# Altium schematic symbol library Detectors.SchLib: 109 symbols (part 4 of 5)
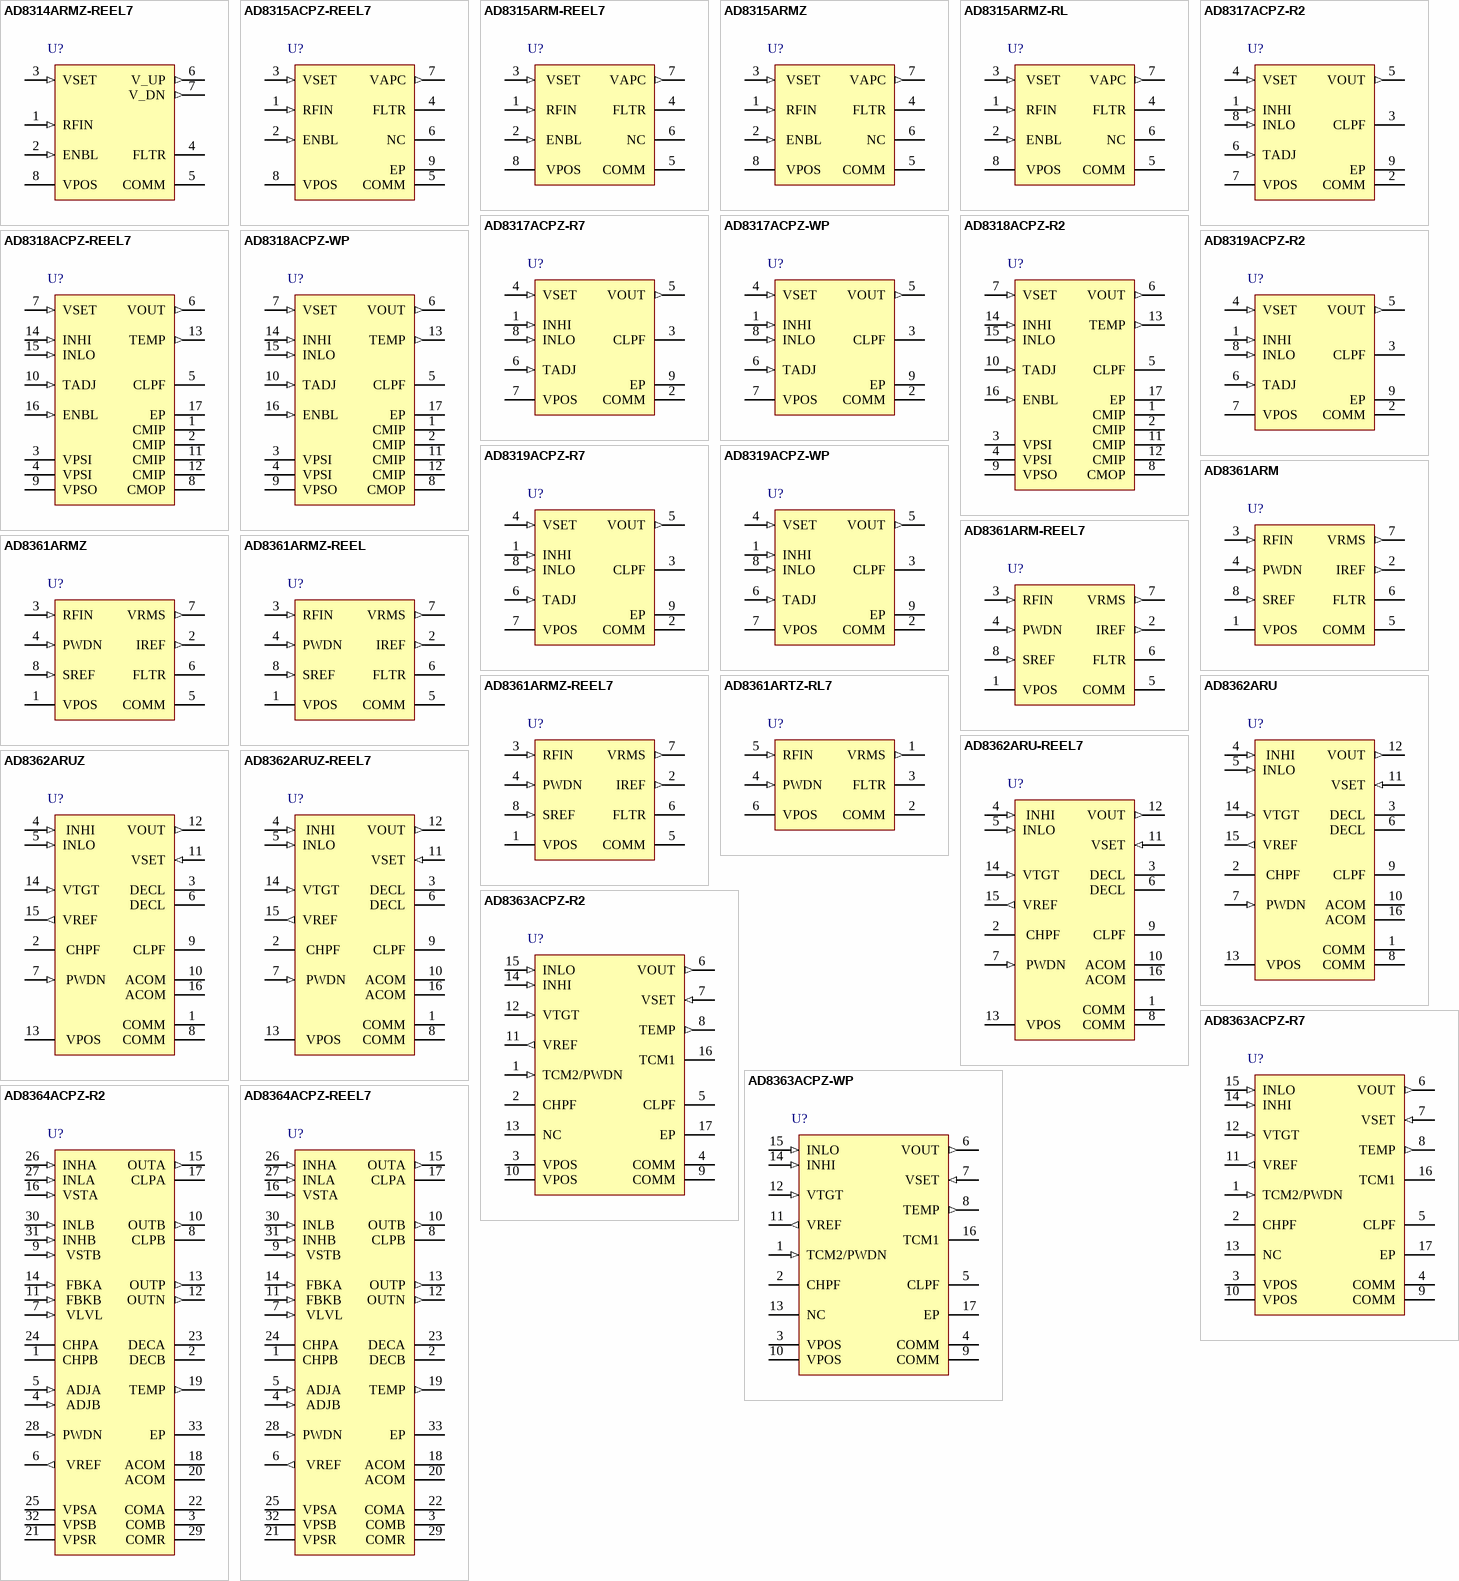
[diagram p6: symbols AD8314ARMZ-REEL7 to AD8364ACPZ-REEL7]

## AD8361ARMZ-REEL7
designator U?
LF to 2.5 GHz TruPwr™ Detector, 5µs Response Time, RM-8, Pb-Free, 1000 	Reel; Product Description: Low Power RMS Detector; RF Frequency (MHz): 2.5GHz; Dynamic Range (dB): 30dB; Temp Stability (dB): 250mdB; Voltage Supply (V): 2.7 to 5.5; Supply Current: 1.1mA; Output Response: Linear in Voltage; DatasheetVersion: Rev. C; PackageVersion: Aug-2005; PackageReference: RM-8; PackageDescription: 8-Lead Mini Small Outline Package [MSOP]; Response Time (ns typ): 5µs; Code_JEDEC: MO-187-AA; ComponentLink1Description: Manufacturer URL; ComponentLink1URL: www.analog.com; ComponentLink2Description: Datasheet; ComponentLink2URL: http://www.analog.com/static/imported-files/data_sheets/AD8361.pdf; ComponentLink3Description: Package Specification; ComponentLink3URL: http://www.analog.com/static/imported-files/packages/PKG_PDF/MSOP%28RM%29/RM_8.pdf
footprint ADI-RM-8_N (TSOP, 8-Leads, Body 3x3mm, Pitch 0.65mm, IPC Medium Density)
footprint ADI-RM-8_L (TSOP, 8-Leads, Body 3x3mm, Pitch 0.65mm, IPC High Density)
footprint ADI-RM-8_M (TSOP, 8-Leads, Body 3x3mm, Pitch 0.65mm, IPC Low Density)
pins: 1 VPOS (power) "Supply Voltage Pin. Operational range 2.7 V to 5.5 V", 2 IREF (out) "Output Reference Control Pin. Internal reference mode enabled when pin is left open; otherwise, this pin should be tied to VPOS. Do not ground this pin", 3 RFIN (in) "Signal Input Pin. Must be driven from an ac-coupled source. The low frequency real input impedance is 225 Ohm", 4 PWDN (in) "Power-Down Pin. For the device to operate as a detector, it needs a logical low input (less than 100 mV). [see datasheet.]", 5 COMM (power) "Device Ground Pin", 6 FLTR "By placing a capacitor between this pin and VPOS, the corner frequency of the modulation filter is lowered. The on-chip filter is formed with 27 pF||2 kOhm for small input signals", 7 VRMS (out) "Output Pin. Near rail-to-rail voltage output with limited current drive capabilities. Expected load >10 kOhm to ground", 8 SREF (in) "Supply Reference Control Pin. To enable supply reference mode, this pin must be connected to VPOS; otherwise, it should be connected to COMM (ground)"

## AD8361ARTZ-RL7
designator U?
LF to 2.5 GHz TruPwr™ Detector, 5µs Response Time, RJ-6, Pb-Free, 3000 	Reel; Product Description: Low Power RMS Detector; RF Frequency (MHz): 2.5GHz; Dynamic Range (dB): 30dB; Temp Stability (dB): 250mdB; Voltage Supply (V): 2.7 to 5.5; Supply Current: 1.1mA; Output Response: Linear in Voltage; DatasheetVersion: Rev. C; PackageVersion: 121608-A; PackageReference: RJ-6; PackageDescription: 6-Lead Small Outline Transistor Package [SOT-23]; Response Time (ns typ): 5µs; Code_JEDEC: MO-178-AB; ComponentLink1Description: Manufacturer URL; ComponentLink1URL: www.analog.com; ComponentLink2Description: Datasheet; ComponentLink2URL: http://www.analog.com/static/imported-files/data_sheets/AD8361.pdf; ComponentLink3Description: Package Specification; ComponentLink3URL: http://www.analog.com/static/imported-files/packages/PKG_PDF/SOT-23(RJ)/RJ_6.pdf
footprint ADI-RJ-6_N (SOT23, 6-Leads, Body 2.9x1.6mm, Pitch 0.95mm, Lead Span 2.8mm, IPC Medium Density)
footprint ADI-RJ-6_L (SOT23, 6-Leads, Body 2.9x1.6mm, Pitch 0.95mm, Lead Span 2.8mm, IPC High Density)
footprint ADI-RJ-6_M (SOT23, 6-Leads, Body 2.9x1.6mm, Pitch 0.95mm, Lead Span 2.8mm, IPC Low Density)
pins: 1 VRMS (out) "Output Pin. Near rail-to-rail voltage output with limited current drive capabilities. Expected load >10 k ohm to ground", 2 COMM (power) "Device Ground Pin", 3 FLTR "By placing a capacitor between this pin and VPOS, the corner frequency of the modulation filter is lowered. The on-chip filter is formed with 27 pF||2 kohm for small input signals", 4 PWDN (in) "Power-Down Pin. For the device to operate as a detector, it needs a logical low input (less than 100 mV).[see datasheet]", 5 RFIN (in) "Signal Input Pin. Must be driven from an ac-coupled source. The low frequency real input impedance is 225 ohm", 6 VPOS (power) "Supply Voltage Pin. Operational range 2.7 V to 5.5 V"

## AD8362ARU
designator U?
50 Hz to 3.8 GHz 65 dB TruPwr™ Detector, 45ns Response Time, RU-16, 96 Tube; Product Description: Wide Dynamic Range; RF Frequency (MHz): 3.8GHz; Dynamic Range (dB): 60dB; Temp Stability (dB): 1dB; Voltage Supply (V): 4.5 to 5.5; Supply Current: 20mA; Output Response: Linear in dB; DatasheetVersion: Rev. D; PackageVersion: Nov-2002; PackageReference: RU-16; PackageDescription: 16-Lead Thin Shrink Small Outline Package [TSSOP]; Response Time (ns typ): 45ns; Code_JEDEC: MO-153AB; ComponentLink1Description: Manufacturer URL; ComponentLink1URL: www.analog.com; ComponentLink2Description: Datasheet; ComponentLink2URL: http://www.analog.com/static/imported-files/data_sheets/AD8362.pdf; ComponentLink3Description: Package Specification; ComponentLink3URL: http://www.analog.com/static/imported-files/packages/36244347913743854010197452789RU16.pdf
footprint ADI-RU-16_N (TSOP, 16-Leads, Body 5x4.4mm, Pitch 0.65mm, IPC Medium Density)
footprint ADI-RU-16_L (TSOP, 16-Leads, Body 5x4.4mm, Pitch 0.65mm, IPC High Density)
footprint ADI-RU-16_M (TSOP, 16-Leads, Body 5x4.4mm, Pitch 0.65mm, IPC Low Density)
pins: 1  COMM (power) "Common Connection. Connect via low impedance to system common", 2  CHPF "Input HPF. Connect to common via a capacitor to determine 3 dB point of input signalhigh-pass filter", 3  DECL "Decoupling Terminals for INHI and INLO. Connect to common via a large capacitance tocomplete  input circuit", 4  INHI (in) "Differential Signal Input Terminals. Input Impedance = 200 O. Can also be driven single-ended, in  which case, the input impedance reduces to 100 ohm", 5 INLO (in) "Differential Signal Input Terminals. Input Impedance = 200 O. Can also be driven single-ended, in  which case, the input impedance reduces to 100 ohm", 6  DECL "Decoupling Terminals for INHI and INLO. Connect to common via a large capacitance tocomplete  input circuit", 7  PWDN (in) "Disable/Enable Control Input. Apply logic high voltage to shut down the AD8362", 8  COMM (power) "Common Connection. Connect via low impedance to system common", 9 CLPF "Connection for Ground Referenced Loop Filter Integration (Averaging) Capacitor", 10  ACOM (power) "Analog Common Connection for Output Amplifier", 11  VSET (in) "Setpoint Input. Connect directly to VOUT for measurement mode. Apply setpoint input to this pin for controller mode", 12  VOUT (out) "RMS Output. In measurement mode, VOUT is normally connected directly to VSET", 13  VPOS (power) "Connect to 5 V Power Supply", 14 VTGT (in) "The logarithmic intercept voltage is proportional to the voltage applied to this pin. The use of a lower target voltage increases the crest factor capacity. Normally connected to VREF", 15 VREF (out) "General-Purpose Reference Voltage Output of 1.25 V. Usually connected only to VTG", 16  ACOM (power) "Analog Common Connection for Output Amplifier"

## AD8362ARU-REEL7
designator U?
50 Hz to 3.8 GHz 65 dB TruPwr™ Detector, 45ns Response Time, RU-16, 1000 	Reel; Product Description: Wide Dynamic Range; RF Frequency (MHz): 3.8GHz; Dynamic Range (dB): 60dB; Temp Stability (dB): 1dB; Voltage Supply (V): 4.5 to 5.5; Supply Current: 20mA; Output Response: Linear in dB; DatasheetVersion: Rev. D; PackageVersion: Nov-2002; PackageReference: RU-16; PackageDescription: 16-Lead Thin Shrink Small Outline Package [TSSOP]; Response Time (ns typ): 45ns; Code_JEDEC: MO-153AB; ComponentLink1Description: Manufacturer URL; ComponentLink1URL: www.analog.com; ComponentLink2Description: Datasheet; ComponentLink2URL: http://www.analog.com/static/imported-files/data_sheets/AD8362.pdf; ComponentLink3Description: Package Specification; ComponentLink3URL: http://www.analog.com/static/imported-files/packages/36244347913743854010197452789RU16.pdf
footprint ADI-RU-16_N (TSOP, 16-Leads, Body 5x4.4mm, Pitch 0.65mm, IPC Medium Density)
footprint ADI-RU-16_L (TSOP, 16-Leads, Body 5x4.4mm, Pitch 0.65mm, IPC High Density)
footprint ADI-RU-16_M (TSOP, 16-Leads, Body 5x4.4mm, Pitch 0.65mm, IPC Low Density)
pins: 1  COMM (power) "Common Connection. Connect via low impedance to system common", 2  CHPF "Input HPF. Connect to common via a capacitor to determine 3 dB point of input signalhigh-pass filter", 3  DECL "Decoupling Terminals for INHI and INLO. Connect to common via a large capacitance tocomplete  input circuit", 4  INHI (in) "Differential Signal Input Terminals. Input Impedance = 200 O. Can also be driven single-ended, in  which case, the input impedance reduces to 100 ohm", 5 INLO (in) "Differential Signal Input Terminals. Input Impedance = 200 O. Can also be driven single-ended, in  which case, the input impedance reduces to 100 ohm", 6  DECL "Decoupling Terminals for INHI and INLO. Connect to common via a large capacitance tocomplete  input circuit", 7  PWDN (in) "Disable/Enable Control Input. Apply logic high voltage to shut down the AD8362", 8  COMM (power) "Common Connection. Connect via low impedance to system common", 9 CLPF "Connection for Ground Referenced Loop Filter Integration (Averaging) Capacitor", 10  ACOM (power) "Analog Common Connection for Output Amplifier", 11  VSET (in) "Setpoint Input. Connect directly to VOUT for measurement mode. Apply setpoint input to this pin for controller mode", 12  VOUT (out) "RMS Output. In measurement mode, VOUT is normally connected directly to VSET", 13  VPOS (power) "Connect to 5 V Power Supply", 14 VTGT (in) "The logarithmic intercept voltage is proportional to the voltage applied to this pin. The use of a lower target voltage increases the crest factor capacity. Normally connected to VREF", 15 VREF (out) "General-Purpose Reference Voltage Output of 1.25 V. Usually connected only to VTG", 16  ACOM (power) "Analog Common Connection for Output Amplifier"

## AD8362ARUZ
designator U?
50 Hz to 3.8 GHz 65 dB TruPwr™ Detector, 45ns Response Time, RU-16, Pb-Free, 96 Tube; Product Description: Wide Dynamic Range; RF Frequency (MHz): 3.8GHz; Dynamic Range (dB): 60dB; Temp Stability (dB): 1dB; Voltage Supply (V): 4.5 to 5.5; Supply Current: 20mA; Output Response: Linear in dB; DatasheetVersion: Rev. D; PackageVersion: Nov-2002; PackageReference: RU-16; PackageDescription: 16-Lead Thin Shrink Small Outline Package [TSSOP]; Response Time (ns typ): 45ns; Code_JEDEC: MO-153AB; ComponentLink1Description: Manufacturer URL; ComponentLink1URL: www.analog.com; ComponentLink2Description: Datasheet; ComponentLink2URL: http://www.analog.com/static/imported-files/data_sheets/AD8362.pdf; ComponentLink3Description: Package Specification; ComponentLink3URL: http://www.analog.com/static/imported-files/packages/36244347913743854010197452789RU16.pdf
footprint ADI-RU-16_N (TSOP, 16-Leads, Body 5x4.4mm, Pitch 0.65mm, IPC Medium Density)
footprint ADI-RU-16_L (TSOP, 16-Leads, Body 5x4.4mm, Pitch 0.65mm, IPC High Density)
footprint ADI-RU-16_M (TSOP, 16-Leads, Body 5x4.4mm, Pitch 0.65mm, IPC Low Density)
pins: 1  COMM (power) "Common Connection. Connect via low impedance to system common", 2  CHPF "Input HPF. Connect to common via a capacitor to determine 3 dB point of input signalhigh-pass filter", 3  DECL "Decoupling Terminals for INHI and INLO. Connect to common via a large capacitance tocomplete  input circuit", 4  INHI (in) "Differential Signal Input Terminals. Input Impedance = 200 O. Can also be driven single-ended, in  which case, the input impedance reduces to 100 ohm", 5 INLO (in) "Differential Signal Input Terminals. Input Impedance = 200 O. Can also be driven single-ended, in  which case, the input impedance reduces to 100 ohm", 6  DECL "Decoupling Terminals for INHI and INLO. Connect to common via a large capacitance tocomplete  input circuit", 7  PWDN (in) "Disable/Enable Control Input. Apply logic high voltage to shut down the AD8362", 8  COMM (power) "Common Connection. Connect via low impedance to system common", 9 CLPF "Connection for Ground Referenced Loop Filter Integration (Averaging) Capacitor", 10  ACOM (power) "Analog Common Connection for Output Amplifier", 11  VSET (in) "Setpoint Input. Connect directly to VOUT for measurement mode. Apply setpoint input to this pin for controller mode", 12  VOUT (out) "RMS Output. In measurement mode, VOUT is normally connected directly to VSET", 13  VPOS (power) "Connect to 5 V Power Supply", 14 VTGT (in) "The logarithmic intercept voltage is proportional to the voltage applied to this pin. The use of a lower target voltage increases the crest factor capacity. Normally connected to VREF", 15 VREF (out) "General-Purpose Reference Voltage Output of 1.25 V. Usually connected only to VTG", 16  ACOM (power) "Analog Common Connection for Output Amplifier"

## AD8362ARUZ-REEL7
designator U?
50 Hz to 3.8 GHz 65 dB TruPwr™ Detector, 45ns Response Time, RU-16, Pb-Free, 1000 	Reel; Product Description: Wide Dynamic Range; RF Frequency (MHz): 3.8GHz; Dynamic Range (dB): 60dB; Temp Stability (dB): 1dB; Voltage Supply (V): 4.5 to 5.5; Supply Current: 20mA; Output Response: Linear in dB; DatasheetVersion: Rev. D; PackageVersion: Nov-2002; PackageReference: RU-16; PackageDescription: 16-Lead Thin Shrink Small Outline Package [TSSOP]; Response Time (ns typ): 45ns; Code_JEDEC: MO-153AB; ComponentLink1Description: Manufacturer URL; ComponentLink1URL: www.analog.com; ComponentLink2Description: Datasheet; ComponentLink2URL: http://www.analog.com/static/imported-files/data_sheets/AD8362.pdf; ComponentLink3Description: Package Specification; ComponentLink3URL: http://www.analog.com/static/imported-files/packages/36244347913743854010197452789RU16.pdf
footprint ADI-RU-16_N (TSOP, 16-Leads, Body 5x4.4mm, Pitch 0.65mm, IPC Medium Density)
footprint ADI-RU-16_L (TSOP, 16-Leads, Body 5x4.4mm, Pitch 0.65mm, IPC High Density)
footprint ADI-RU-16_M (TSOP, 16-Leads, Body 5x4.4mm, Pitch 0.65mm, IPC Low Density)
pins: 1  COMM (power) "Common Connection. Connect via low impedance to system common", 2  CHPF "Input HPF. Connect to common via a capacitor to determine 3 dB point of input signalhigh-pass filter", 3  DECL "Decoupling Terminals for INHI and INLO. Connect to common via a large capacitance tocomplete  input circuit", 4  INHI (in) "Differential Signal Input Terminals. Input Impedance = 200 O. Can also be driven single-ended, in  which case, the input impedance reduces to 100 ohm", 5 INLO (in) "Differential Signal Input Terminals. Input Impedance = 200 O. Can also be driven single-ended, in  which case, the input impedance reduces to 100 ohm", 6  DECL "Decoupling Terminals for INHI and INLO. Connect to common via a large capacitance tocomplete  input circuit", 7  PWDN (in) "Disable/Enable Control Input. Apply logic high voltage to shut down the AD8362", 8  COMM (power) "Common Connection. Connect via low impedance to system common", 9 CLPF "Connection for Ground Referenced Loop Filter Integration (Averaging) Capacitor", 10  ACOM (power) "Analog Common Connection for Output Amplifier", 11  VSET (in) "Setpoint Input. Connect directly to VOUT for measurement mode. Apply setpoint input to this pin for controller mode", 12  VOUT (out) "RMS Output. In measurement mode, VOUT is normally connected directly to VSET", 13  VPOS (power) "Connect to 5 V Power Supply", 14 VTGT (in) "The logarithmic intercept voltage is proportional to the voltage applied to this pin. The use of a lower target voltage increases the crest factor capacity. Normally connected to VREF", 15 VREF (out) "General-Purpose Reference Voltage Output of 1.25 V. Usually connected only to VTG", 16  ACOM (power) "Analog Common Connection for Output Amplifier"

## AD8363ACPZ-R2
designator U?
50 Hz to 6 GHz,50 dB TruPwr™ Detector, 3µs Response Time, CP-16-10, Pb-Free, 250 Reel; Product Description: 125°C Operation, Broadband; RF Frequency (MHz): 6GHz; Dynamic Range (dB): 50dB; Temp Stability (dB): 500mdB; Voltage Supply (V): 4.5 to 5.5; Supply Current: 60mA; Output Response: Linear in dB; DatasheetVersion: Rev. A; PackageVersion: 010606-0; PackageReference: CP-16-10; PackageDescription: 16-Lead Lead Frame Chip Scale Package [LFCSP_VQ]; Response Time (ns typ): 3µs; Code_JEDEC: MO-220-VGGC; ComponentLink1Description: Manufacturer URL; ComponentLink1URL: www.analog.com; ComponentLink2Description: Datasheet; ComponentLink2URL: http://www.analog.com/static/imported-files/data_sheets/AD8363.pdf; ComponentLink3Description: Package Specification; ComponentLink3URL: http://www.analog.com/static/imported-files/packages/PKG_PDF/LFCSP(CP)/CP_16_10.pdf
footprint ADI-CP-16-10_N (QFN, 16-Leads, Body 4x4mm, Pitch 0.65mm, Thermal Pad 2.35x2.35mm, IPC Medium Density)
footprint ADI-CP-16-10_L (QFN, 16-Leads, Body 4x4mm, Pitch 0.65mm, Thermal Pad 2.35x2.35mm, IPC High Density)
footprint ADI-CP-16-10_M (QFN, 16-Leads, Body 4x4mm, Pitch 0.65mm, Thermal Pad 2.35x2.35mm, IPC Low Density)
pins: 1 TCM2/PWDN (in) "This is a dual function pin used for controlling the amount of nonlinear intercept temperature compensation at voltages <2.5 V and/or for shutting down the device at voltages >4 V. [see datasheet]", 2 CHPF "Connect this pin to VPOS via a capacitor to determine the -3 dB point of the input signal high-pass filter. Only add a capacitor when operating at frequencies below 10 MHz.", 3 VPOS (power) "Supply for the Device. Connect these pins to a 5 V power supply. Pin 3 and Pin 10 are not internally connected; therefore, both must connect to the source.", 4 COMM (power) "System Common Connection. Connect these pins via low impedance to system common. The exposed paddle is also COMM and should have both a good thermal and good electrical connection to ground.", 5 CLPF "Connection for Loop Filter Integration (Averaging) Capacitor. Connect a ground-referenced capacitor to this pin. A resistor can be connected in series with this capacitor to improve loop stability and response time. [see datasheet]", 6 VOUT (out) "Output Pin in Measurement Mode (Error Amplifier Output). In measurement mode, this pin is connected to VSET. [see datasheet]", 7 VSET (in) "The voltage applied to this pin sets the decibel value of the required RF input voltage that results in zero current flow in the loop integrating capacitor pin, CLPF. [see datasheet]", 8 TEMP (out) "Temperature Sensor Output.", 9 COMM (power) "System Common Connection. Connect these pins via low impedance to system common. The exposed paddle is also COMM and should have both a good thermal and good electrical connection to ground.", 10 VPOS (power) "Supply for the Device. Connect these pins to a 5 V power supply. Pin 3 and Pin 10 are not internally connected; therefore, both must connect to the source.", 11 VREF (out) "General-Purpose Reference Voltage Output of 2.3 V.", 12 VTGT (in) "The voltage applied to this pin determines the target power at the input of the RF squaring circuit. The intercept voltage is proportional to the voltage applied to this pin. [see datasheet]", 13 NC "No Connect.", 14 INHI (in) "This is the RF input pin for frequencies up to and including 2.6 GHz. The RF input signal is normally ac-coupled to this pin through a coupling capacitor", 15 INLO (in) "This is the RF input pin for frequencies above 2.6 GHz. The RF input signal is normally ac-coupled to this pin through a coupling capacitor.", 16 TCM1 "This pin is used to adjust the intercept temperature compensation. Connect this pin to VREF through a voltage divider or to an external dc source.", 17 EP (power) "System Common Connection. Connect these pins via low impedance to system common. The exposed paddle is also COMM and should have both a good thermal and good electrical connection to ground."

## AD8363ACPZ-R7
designator U?
50 Hz to 6 GHz,50 dB TruPwr™ Detector, 3µs Response Time, CP-16-10, Pb-Free, 1500 Reel; Product Description: 125°C Operation, Broadband; RF Frequency (MHz): 6GHz; Dynamic Range (dB): 50dB; Temp Stability (dB): 500mdB; Voltage Supply (V): 4.5 to 5.5; Supply Current: 60mA; Output Response: Linear in dB; DatasheetVersion: Rev. A; PackageVersion: 010606-0; PackageReference: CP-16-10; PackageDescription: 16-Lead Lead Frame Chip Scale Package [LFCSP_VQ]; Response Time (ns typ): 3µs; Code_JEDEC: MO-220-VGGC; ComponentLink1Description: Manufacturer URL; ComponentLink1URL: www.analog.com; ComponentLink2Description: Datasheet; ComponentLink2URL: http://www.analog.com/static/imported-files/data_sheets/AD8363.pdf; ComponentLink3Description: Package Specification; ComponentLink3URL: http://www.analog.com/static/imported-files/packages/PKG_PDF/LFCSP(CP)/CP_16_10.pdf
footprint ADI-CP-16-10_N (QFN, 16-Leads, Body 4x4mm, Pitch 0.65mm, Thermal Pad 2.35x2.35mm, IPC Medium Density)
footprint ADI-CP-16-10_L (QFN, 16-Leads, Body 4x4mm, Pitch 0.65mm, Thermal Pad 2.35x2.35mm, IPC High Density)
footprint ADI-CP-16-10_M (QFN, 16-Leads, Body 4x4mm, Pitch 0.65mm, Thermal Pad 2.35x2.35mm, IPC Low Density)
pins: 1 TCM2/PWDN (in) "This is a dual function pin used for controlling the amount of nonlinear intercept temperature compensation at voltages <2.5 V and/or for shutting down the device at voltages >4 V. [see datasheet]", 2 CHPF "Connect this pin to VPOS via a capacitor to determine the -3 dB point of the input signal high-pass filter. Only add a capacitor when operating at frequencies below 10 MHz.", 3 VPOS (power) "Supply for the Device. Connect these pins to a 5 V power supply. Pin 3 and Pin 10 are not internally connected; therefore, both must connect to the source.", 4 COMM (power) "System Common Connection. Connect these pins via low impedance to system common. The exposed paddle is also COMM and should have both a good thermal and good electrical connection to ground.", 5 CLPF "Connection for Loop Filter Integration (Averaging) Capacitor. Connect a ground-referenced capacitor to this pin. A resistor can be connected in series with this capacitor to improve loop stability and response time. [see datasheet]", 6 VOUT (out) "Output Pin in Measurement Mode (Error Amplifier Output). In measurement mode, this pin is connected to VSET. [see datasheet]", 7 VSET (in) "The voltage applied to this pin sets the decibel value of the required RF input voltage that results in zero current flow in the loop integrating capacitor pin, CLPF. [see datasheet]", 8 TEMP (out) "Temperature Sensor Output.", 9 COMM (power) "System Common Connection. Connect these pins via low impedance to system common. The exposed paddle is also COMM and should have both a good thermal and good electrical connection to ground.", 10 VPOS (power) "Supply for the Device. Connect these pins to a 5 V power supply. Pin 3 and Pin 10 are not internally connected; therefore, both must connect to the source.", 11 VREF (out) "General-Purpose Reference Voltage Output of 2.3 V.", 12 VTGT (in) "The voltage applied to this pin determines the target power at the input of the RF squaring circuit. The intercept voltage is proportional to the voltage applied to this pin. [see datasheet]", 13 NC "No Connect.", 14 INHI (in) "This is the RF input pin for frequencies up to and including 2.6 GHz. The RF input signal is normally ac-coupled to this pin through a coupling capacitor", 15 INLO (in) "This is the RF input pin for frequencies above 2.6 GHz. The RF input signal is normally ac-coupled to this pin through a coupling capacitor.", 16 TCM1 "This pin is used to adjust the intercept temperature compensation. Connect this pin to VREF through a voltage divider or to an external dc source.", 17 EP (power) "System Common Connection. Connect these pins via low impedance to system common. The exposed paddle is also COMM and should have both a good thermal and good electrical connection to ground."

## AD8363ACPZ-WP
designator U?
50 Hz to 6 GHz,50 dB TruPwr™ Detector, 3µs Response Time, CP-16-10, Pb-Free, 64 Tray; Product Description: 125°C Operation, Broadband; RF Frequency (MHz): 6GHz; Dynamic Range (dB): 50dB; Temp Stability (dB): 500mdB; Voltage Supply (V): 4.5 to 5.5; Supply Current: 60mA; Output Response: Linear in dB; DatasheetVersion: Rev. A; PackageVersion: 010606-0; PackageReference: CP-16-10; PackageDescription: 16-Lead Lead Frame Chip Scale Package [LFCSP_VQ]; Response Time (ns typ): 3µs; Code_JEDEC: MO-220-VGGC; ComponentLink1Description: Manufacturer URL; ComponentLink1URL: www.analog.com; ComponentLink2Description: Datasheet; ComponentLink2URL: http://www.analog.com/static/imported-files/data_sheets/AD8363.pdf; ComponentLink3Description: Package Specification; ComponentLink3URL: http://www.analog.com/static/imported-files/packages/PKG_PDF/LFCSP(CP)/CP_16_10.pdf
footprint ADI-CP-16-10_N (QFN, 16-Leads, Body 4x4mm, Pitch 0.65mm, Thermal Pad 2.35x2.35mm, IPC Medium Density)
footprint ADI-CP-16-10_L (QFN, 16-Leads, Body 4x4mm, Pitch 0.65mm, Thermal Pad 2.35x2.35mm, IPC High Density)
footprint ADI-CP-16-10_M (QFN, 16-Leads, Body 4x4mm, Pitch 0.65mm, Thermal Pad 2.35x2.35mm, IPC Low Density)
pins: 1 TCM2/PWDN (in) "This is a dual function pin used for controlling the amount of nonlinear intercept temperature compensation at voltages <2.5 V and/or for shutting down the device at voltages >4 V. [see datasheet]", 2 CHPF "Connect this pin to VPOS via a capacitor to determine the -3 dB point of the input signal high-pass filter. Only add a capacitor when operating at frequencies below 10 MHz.", 3 VPOS (power) "Supply for the Device. Connect these pins to a 5 V power supply. Pin 3 and Pin 10 are not internally connected; therefore, both must connect to the source.", 4 COMM (power) "System Common Connection. Connect these pins via low impedance to system common. The exposed paddle is also COMM and should have both a good thermal and good electrical connection to ground.", 5 CLPF "Connection for Loop Filter Integration (Averaging) Capacitor. Connect a ground-referenced capacitor to this pin. A resistor can be connected in series with this capacitor to improve loop stability and response time. [see datasheet]", 6 VOUT (out) "Output Pin in Measurement Mode (Error Amplifier Output). In measurement mode, this pin is connected to VSET. [see datasheet]", 7 VSET (in) "The voltage applied to this pin sets the decibel value of the required RF input voltage that results in zero current flow in the loop integrating capacitor pin, CLPF. [see datasheet]", 8 TEMP (out) "Temperature Sensor Output.", 9 COMM (power) "System Common Connection. Connect these pins via low impedance to system common. The exposed paddle is also COMM and should have both a good thermal and good electrical connection to ground.", 10 VPOS (power) "Supply for the Device. Connect these pins to a 5 V power supply. Pin 3 and Pin 10 are not internally connected; therefore, both must connect to the source.", 11 VREF (out) "General-Purpose Reference Voltage Output of 2.3 V.", 12 VTGT (in) "The voltage applied to this pin determines the target power at the input of the RF squaring circuit. The intercept voltage is proportional to the voltage applied to this pin. [see datasheet]", 13 NC "No Connect.", 14 INHI (in) "This is the RF input pin for frequencies up to and including 2.6 GHz. The RF input signal is normally ac-coupled to this pin through a coupling capacitor", 15 INLO (in) "This is the RF input pin for frequencies above 2.6 GHz. The RF input signal is normally ac-coupled to this pin through a coupling capacitor.", 16 TCM1 "This pin is used to adjust the intercept temperature compensation. Connect this pin to VREF through a voltage divider or to an external dc source.", 17 EP (power) "System Common Connection. Connect these pins via low impedance to system common. The exposed paddle is also COMM and should have both a good thermal and good electrical connection to ground."

## AD8364ACPZ-R2
designator U?
LF to 2.7 GHz Dual 60 dB TruPwr™ Detector, 45ns Response Time, CP-32-3, Pb-Free, 250 	Reel; Product Description: Dual-Channel AD8362; RF Frequency (MHz): 2.7GHz; Dynamic Range (dB): 60dB; Temp Stability (dB): 500mdB; Voltage Supply (V): 4.5 to 5.5; Supply Current: 70mA; Output Response: Linear in dB; DatasheetVersion: Rev. B; PackageVersion: Jan-2005; PackageReference: CP-32-3; PackageDescription: 32-Lead Lead Frame Chip Scale Package [LFCSP_VQ]; Response Time (ns typ): 45ns; Code_JEDEC: MO-220-VHHD-2; ComponentLink1Description: Manufacturer URL; ComponentLink1URL: www.analog.com; ComponentLink2Description: Datasheet; ComponentLink2URL: http://www.analog.com/static/imported-files/data_sheets/AD8364.pdf; ComponentLink3Description: Package Specification; ComponentLink3URL: http://www.analog.com/static/imported-files/packages/32877413525511988CP_32_3.pdf
footprint ADI-CP-32-3_N (QFN, 32-Leads, Body 5x5mm, Pitch 0.5mm, Thermal Pad 3.3x3.3mm, IPC Medium Density)
footprint ADI-CP-32-3_L (QFN, 32-Leads, Body 5x5mm, Pitch 0.5mm, Thermal Pad 3.3x3.3mm, IPC High Density)
footprint ADI-CP-32-3_M (QFN, 32-Leads, Body 5x5mm, Pitch 0.5mm, Thermal Pad 3.3x3.3mm, IPC Low Density)
pins: 1 CHPB "Connect to common via a capacitor to determine 3 dB point of ChannelB inputsignalhigh-pass filter", 2 DECB "Decoupling Terminals for INHA/INLA and INHB/INLB. Connect to common via a largecapacitance to complete input circuit", 3   COMB (power) "Input System Common Connection. Connect via low impedance to system common", 4  ADJB (in) "Temperature Compensation for Channel B and Channel A. An external voltage is connected to these pins to improve temperature drift. [see datasheet]", 5  ADJA (in) "Temperature Compensation for Channel B and Channel A. An external voltage is connected to these pins to improve temperature drift. [see datasheet]", 6  VREF (out) "General-Purpose Reference Voltage Output of 2.5 V", 7  VLVL (in) "Reference Level Input for OUTP and OUT", 8  CLPB "Channel B and Channel A Connection for Loop Filter Integration (Averaging) Capacitor. Connect a ground-referenced capacitor to this pin. [see datasheet.]", 9  VSTB (in) "The voltage applied to this pin sets the decibel value of the required RF input voltage to Channel B, which results in zero current flow in the loop integrating capacitor pin, CLPB", 10  OUTB (out) "Channel B Output of Error Amplifier. In measurement mode, normally connected directly to VSTB", 11  FBKB (in) "Feedback Through 1 kohm to the Negative Terminal of the Integrated Op Amp Driving OUTN", 12  OUTN (out) "Channel Differencing Op Amp Output.", 13  OUTP (out) "Channel Differencing Op Amp Output.", 14  FBKA (in) "Feedback Through 1kO to the Negative Terminal of the Integrated Op Amp Driving OUTP.", 15 OUTA (out) "Channel A Output of Error Amplifier. In measurement mode, normally connected directly to VSTA.", 16 VSTA (in) "The voltage applied to this pin sets the decibel value of the required RF input voltage to Channel A that results in zero current flow in the loop integrating capacitor pin, CLPA.", 17 CLPA "Channel B and Channel A Connection for Loop Filter Integration (Averaging) Capacitor. Connect a ground-referenced capacitor to this pin. A resistor can be connected in series with this capacitor to improve loop stability and response time.", 18 ACOM (power) "Analog Common for Channels A and B. Connect via low impedance to common.", 19 TEMP (out) "Temperature Sensor Output.", 20 ACOM (power) "Analog Common for Channels A and B. Connect via low impedance to common.", 21 VPSR (power) "Connect to +5 V power supply.", 22 COMA (power) "Input System Common Connection. Connect via low impedance to system common.", 23 DECA "Decoupling Terminals for INHA/INLA and INHB/INLB. Connect to common via a large capacitance to complete input circuit.", 24 CHPA "Connect to common via a capacitor to determine 3 dB point of Channel A input signal high-pass filter", 25 VPSA (power) "Connect to +5 V power supply.", 26 INHA (in) "Channel A High and Low RF Signal Input Terminal.", 27 INLA (in) "Channel A High and Low RF Signal Input Terminal.", 28 PWDN (in) "Disable/Enable Control Input. Apply logic high voltage to shut down the AD8364.", 29 COMR (power) "Input System Common Connection. Connect via low impedance to system common.", 30 INLB (in) "Channel B Low and High RF Signal Input Terminal.", 31 INHB (in) "Channel B Low and High RF Signal Input Terminal.", 32 VPSB (power) "Connect to +5 V power supply.", 33 EP (power) "The exposed paddle on the underside of the package should be soldered to a ground plane with low thermal and electrical characteristics."

## AD8364ACPZ-REEL7
designator U?
LF to 2.7 GHz Dual 60 dB TruPwr™ Detector, 45ns Response Time, CP-32-3, Pb-Free, 1500 	Reel; Product Description: Dual-Channel AD8362; RF Frequency (MHz): 2.7GHz; Dynamic Range (dB): 60dB; Temp Stability (dB): 500mdB; Voltage Supply (V): 4.5 to 5.5; Supply Current: 70mA; Output Response: Linear in dB; DatasheetVersion: Rev. B; PackageVersion: Jan-2005; PackageReference: CP-32-3; PackageDescription: 32-Lead Lead Frame Chip Scale Package [LFCSP_VQ]; Response Time (ns typ): 45ns; Code_JEDEC: MO-220-VHHD-2; ComponentLink1Description: Manufacturer URL; ComponentLink1URL: www.analog.com; ComponentLink2Description: Datasheet; ComponentLink2URL: http://www.analog.com/static/imported-files/data_sheets/AD8364.pdf; ComponentLink3Description: Package Specification; ComponentLink3URL: http://www.analog.com/static/imported-files/packages/32877413525511988CP_32_3.pdf
footprint ADI-CP-32-3_N (QFN, 32-Leads, Body 5x5mm, Pitch 0.5mm, Thermal Pad 3.3x3.3mm, IPC Medium Density)
footprint ADI-CP-32-3_L (QFN, 32-Leads, Body 5x5mm, Pitch 0.5mm, Thermal Pad 3.3x3.3mm, IPC High Density)
footprint ADI-CP-32-3_M (QFN, 32-Leads, Body 5x5mm, Pitch 0.5mm, Thermal Pad 3.3x3.3mm, IPC Low Density)
pins: 1 CHPB "Connect to common via a capacitor to determine 3 dB point of ChannelB inputsignalhigh-pass filter", 2 DECB "Decoupling Terminals for INHA/INLA and INHB/INLB. Connect to common via a largecapacitance to complete input circuit", 3   COMB (power) "Input System Common Connection. Connect via low impedance to system common", 4  ADJB (in) "Temperature Compensation for Channel B and Channel A. An external voltage is connected to these pins to improve temperature drift. [see datasheet]", 5  ADJA (in) "Temperature Compensation for Channel B and Channel A. An external voltage is connected to these pins to improve temperature drift. [see datasheet]", 6  VREF (out) "General-Purpose Reference Voltage Output of 2.5 V", 7  VLVL (in) "Reference Level Input for OUTP and OUT", 8  CLPB "Channel B and Channel A Connection for Loop Filter Integration (Averaging) Capacitor. Connect a ground-referenced capacitor to this pin. [see datasheet.]", 9  VSTB (in) "The voltage applied to this pin sets the decibel value of the required RF input voltage to Channel B, which results in zero current flow in the loop integrating capacitor pin, CLPB", 10  OUTB (out) "Channel B Output of Error Amplifier. In measurement mode, normally connected directly to VSTB", 11  FBKB (in) "Feedback Through 1 kohm to the Negative Terminal of the Integrated Op Amp Driving OUTN", 12  OUTN (out) "Channel Differencing Op Amp Output.", 13  OUTP (out) "Channel Differencing Op Amp Output.", 14  FBKA (in) "Feedback Through 1kO to the Negative Terminal of the Integrated Op Amp Driving OUTP.", 15 OUTA (out) "Channel A Output of Error Amplifier. In measurement mode, normally connected directly to VSTA.", 16 VSTA (in) "The voltage applied to this pin sets the decibel value of the required RF input voltage to Channel A that results in zero current flow in the loop integrating capacitor pin, CLPA.", 17 CLPA "Channel B and Channel A Connection for Loop Filter Integration (Averaging) Capacitor. Connect a ground-referenced capacitor to this pin. A resistor can be connected in series with this capacitor to improve loop stability and response time.", 18 ACOM (power) "Analog Common for Channels A and B. Connect via low impedance to common.", 19 TEMP (out) "Temperature Sensor Output.", 20 ACOM (power) "Analog Common for Channels A and B. Connect via low impedance to common.", 21 VPSR (power) "Connect to +5 V power supply.", 22 COMA (power) "Input System Common Connection. Connect via low impedance to system common.", 23 DECA "Decoupling Terminals for INHA/INLA and INHB/INLB. Connect to common via a large capacitance to complete input circuit.", 24 CHPA "Connect to common via a capacitor to determine 3 dB point of Channel A input signal high-pass filter", 25 VPSA (power) "Connect to +5 V power supply.", 26 INHA (in) "Channel A High and Low RF Signal Input Terminal.", 27 INLA (in) "Channel A High and Low RF Signal Input Terminal.", 28 PWDN (in) "Disable/Enable Control Input. Apply logic high voltage to shut down the AD8364.", 29 COMR (power) "Input System Common Connection. Connect via low impedance to system common.", 30 INLB (in) "Channel B Low and High RF Signal Input Terminal.", 31 INHB (in) "Channel B Low and High RF Signal Input Terminal.", 32 VPSB (power) "Connect to +5 V power supply.", 33 EP (power) "The exposed paddle on the underside of the package should be soldered to a ground plane with low thermal and electrical characteristics."

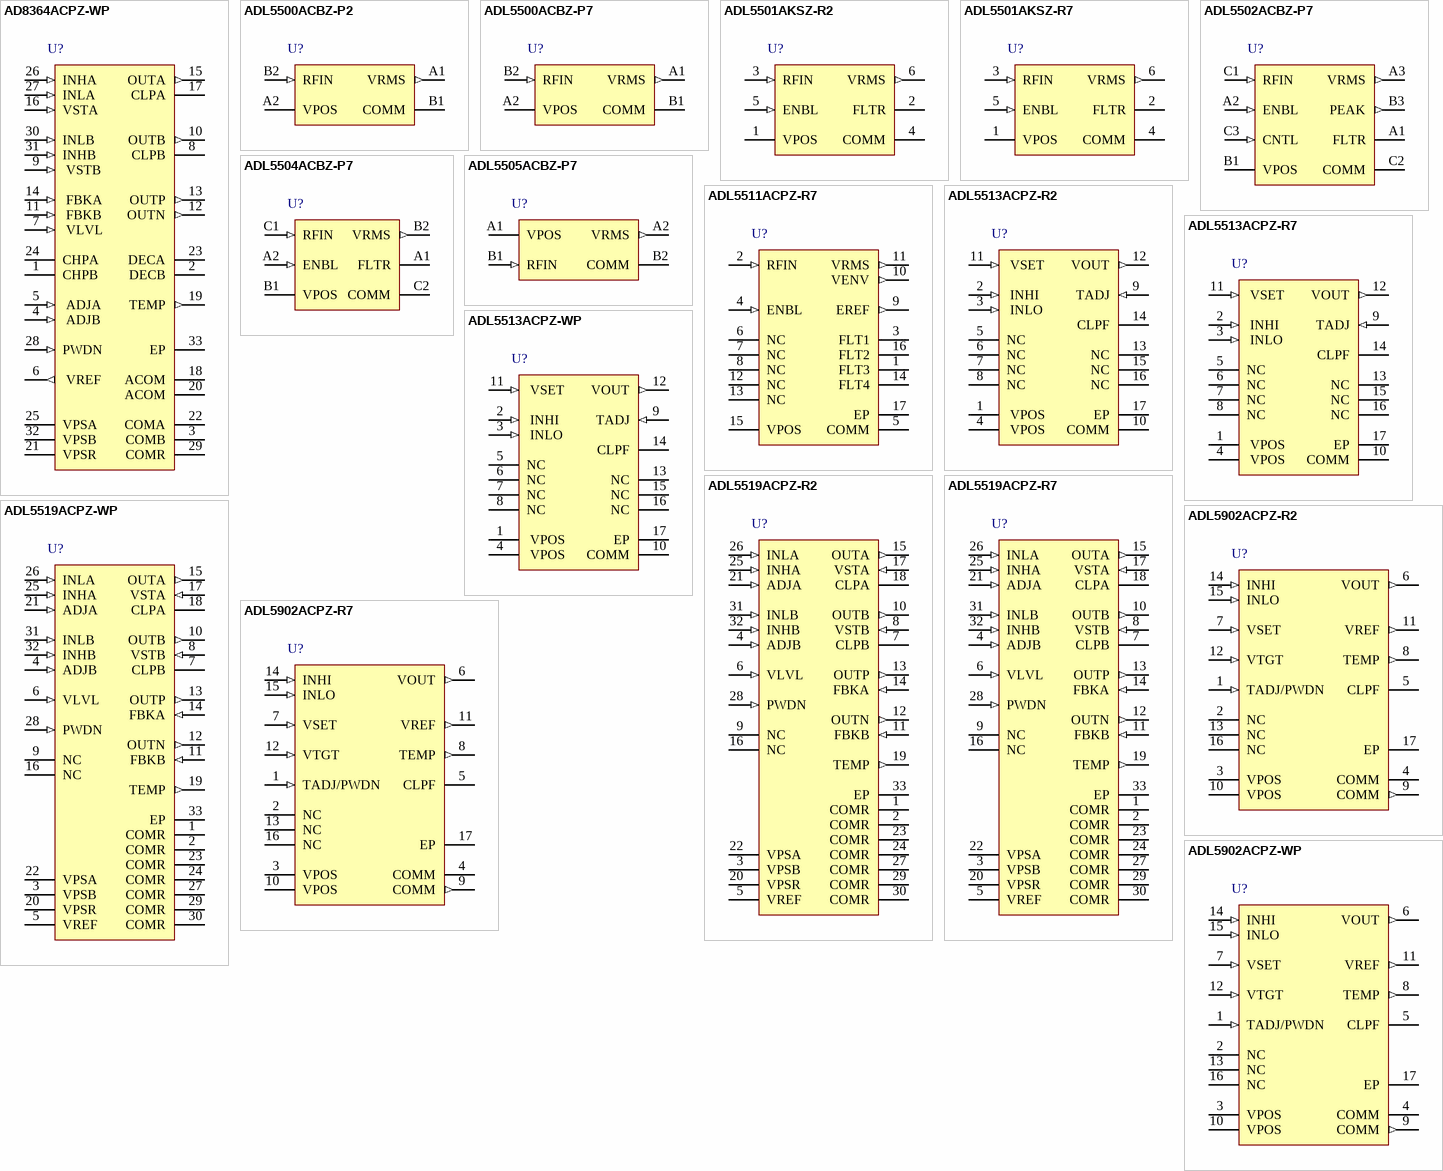
[diagram p3: symbols AD8364ACPZ-WP to ADL5902ACPZ-WP]

## AD8364ACPZ-WP
designator U?
LF to 2.7 GHz Dual 60 dB TruPwr™ Detector, 45ns Response Time, CP-32-3, Pb-Free, 36 	Tray; Product Description: Dual-Channel AD8362; RF Frequency (MHz): 2.7GHz; Dynamic Range (dB): 60dB; Temp Stability (dB): 500mdB; Voltage Supply (V): 4.5 to 5.5; Supply Current: 70mA; Output Response: Linear in dB; DatasheetVersion: Rev. B; PackageVersion: Jan-2005; PackageReference: CP-32-3; PackageDescription: 32-Lead Lead Frame Chip Scale Package [LFCSP_VQ]; Response Time (ns typ): 45ns; Code_JEDEC: MO-220-VHHD-2; ComponentLink1Description: Manufacturer URL; ComponentLink1URL: www.analog.com; ComponentLink2Description: Datasheet; ComponentLink2URL: http://www.analog.com/static/imported-files/data_sheets/AD8364.pdf; ComponentLink3Description: Package Specification; ComponentLink3URL: http://www.analog.com/static/imported-files/packages/32877413525511988CP_32_3.pdf
footprint ADI-CP-32-3_N (QFN, 32-Leads, Body 5x5mm, Pitch 0.5mm, Thermal Pad 3.3x3.3mm, IPC Medium Density)
footprint ADI-CP-32-3_L (QFN, 32-Leads, Body 5x5mm, Pitch 0.5mm, Thermal Pad 3.3x3.3mm, IPC High Density)
footprint ADI-CP-32-3_M (QFN, 32-Leads, Body 5x5mm, Pitch 0.5mm, Thermal Pad 3.3x3.3mm, IPC Low Density)
pins: 1 CHPB "Connect to common via a capacitor to determine 3 dB point of ChannelB inputsignalhigh-pass filter", 2 DECB "Decoupling Terminals for INHA/INLA and INHB/INLB. Connect to common via a largecapacitance to complete input circuit", 3   COMB (power) "Input System Common Connection. Connect via low impedance to system common", 4  ADJB (in) "Temperature Compensation for Channel B and Channel A. An external voltage is connected to these pins to improve temperature drift. [see datasheet]", 5  ADJA (in) "Temperature Compensation for Channel B and Channel A. An external voltage is connected to these pins to improve temperature drift. [see datasheet]", 6  VREF (out) "General-Purpose Reference Voltage Output of 2.5 V", 7  VLVL (in) "Reference Level Input for OUTP and OUT", 8  CLPB "Channel B and Channel A Connection for Loop Filter Integration (Averaging) Capacitor. Connect a ground-referenced capacitor to this pin. [see datasheet.]", 9  VSTB (in) "The voltage applied to this pin sets the decibel value of the required RF input voltage to Channel B, which results in zero current flow in the loop integrating capacitor pin, CLPB", 10  OUTB (out) "Channel B Output of Error Amplifier. In measurement mode, normally connected directly to VSTB", 11  FBKB (in) "Feedback Through 1 kohm to the Negative Terminal of the Integrated Op Amp Driving OUTN", 12  OUTN (out) "Channel Differencing Op Amp Output.", 13  OUTP (out) "Channel Differencing Op Amp Output.", 14  FBKA (in) "Feedback Through 1kO to the Negative Terminal of the Integrated Op Amp Driving OUTP.", 15 OUTA (out) "Channel A Output of Error Amplifier. In measurement mode, normally connected directly to VSTA.", 16 VSTA (in) "The voltage applied to this pin sets the decibel value of the required RF input voltage to Channel A that results in zero current flow in the loop integrating capacitor pin, CLPA.", 17 CLPA "Channel B and Channel A Connection for Loop Filter Integration (Averaging) Capacitor. Connect a ground-referenced capacitor to this pin. A resistor can be connected in series with this capacitor to improve loop stability and response time.", 18 ACOM (power) "Analog Common for Channels A and B. Connect via low impedance to common.", 19 TEMP (out) "Temperature Sensor Output.", 20 ACOM (power) "Analog Common for Channels A and B. Connect via low impedance to common.", 21 VPSR (power) "Connect to +5 V power supply.", 22 COMA (power) "Input System Common Connection. Connect via low impedance to system common.", 23 DECA "Decoupling Terminals for INHA/INLA and INHB/INLB. Connect to common via a large capacitance to complete input circuit.", 24 CHPA "Connect to common via a capacitor to determine 3 dB point of Channel A input signal high-pass filter", 25 VPSA (power) "Connect to +5 V power supply.", 26 INHA (in) "Channel A High and Low RF Signal Input Terminal.", 27 INLA (in) "Channel A High and Low RF Signal Input Terminal.", 28 PWDN (in) "Disable/Enable Control Input. Apply logic high voltage to shut down the AD8364.", 29 COMR (power) "Input System Common Connection. Connect via low impedance to system common.", 30 INLB (in) "Channel B Low and High RF Signal Input Terminal.", 31 INHB (in) "Channel B Low and High RF Signal Input Terminal.", 32 VPSB (power) "Connect to +5 V power supply.", 33 EP (power) "The exposed paddle on the underside of the package should be soldered to a ground plane with low thermal and electrical characteristics."

## ADL5500ACBZ-P2
designator U?
100 MHz to 6 GHz TruPwr™ Detector, 10µs Response Time, CB-4, Pb-Free, 250 Reel; Product Description: Reduced Size, Improved Temp Stability; RF Frequency (MHz): 6GHz; Dynamic Range (dB): 30dB; Temp Stability (dB): 250mdB; Voltage Supply (V): 2.7 to 5.5; Supply Current: 1.1mA; Output Response: Linear in Voltage; DatasheetVersion: Rev. A; PackageVersion: 111105-0; PackageReference: CB-4; PackageDescription: 4-Ball Wafer-Level Chip Scale Package [WLCSP]; Response Time (ns typ): 10µs; ComponentLink1Description: Manufacturer URL; ComponentLink1URL: www.analog.com; ComponentLink2Description: Datasheet; ComponentLink2URL: http://www.analog.com/static/imported-files/data_sheets/ADL5500.pdf; ComponentLink3Description: Package Specification; ComponentLink3URL: http://www.analog.com/static/imported-files/data_sheets/ADL5500.pdf
footprint ADI-CB-4 (BGA, 4-Leads, Body 0.96x0.96mm, Pitch 0.5mm)
pins: A1 VRMS (out) "Output Pin. Rail-to-rail voltage output with limited current drive capability. The output has an internal 1 K ohm series resistance. [see datasheet]", A2 VPOS (power) "Supply Voltage Pin. Operational range 2.7 V to 5.5 V.", B1 COMM (power) "Device Ground Pin.", B2 RFIN (in) "Signal Input Pin. Internally ac-coupled after internal termination resistance. Nominal 50 ohm input impedance."

## ADL5500ACBZ-P7
designator U?
100 MHz to 6 GHz TruPwr™ Detector, 10µs Response Time, CB-4, Pb-Free, 3000 Reel; Product Description: Reduced Size, Improved Temp Stability; RF Frequency (MHz): 6GHz; Dynamic Range (dB): 30dB; Temp Stability (dB): 250mdB; Voltage Supply (V): 2.7 to 5.5; Supply Current: 1.1mA; Output Response: Linear in Voltage; DatasheetVersion: Rev. A; PackageVersion: 111105-0; PackageReference: CB-4; PackageDescription: 4-Ball Wafer-Level Chip Scale Package [WLCSP]; Response Time (ns typ): 10µs; ComponentLink1Description: Manufacturer URL; ComponentLink1URL: www.analog.com; ComponentLink2Description: Datasheet; ComponentLink2URL: http://www.analog.com/static/imported-files/data_sheets/ADL5500.pdf; ComponentLink3Description: Package Specification; ComponentLink3URL: http://www.analog.com/static/imported-files/data_sheets/ADL5500.pdf
footprint ADI-CB-4 (BGA, 4-Leads, Body 0.96x0.96mm, Pitch 0.5mm)
pins: A1 VRMS (out) "Output Pin. Rail-to-rail voltage output with limited current drive capability. The output has an internal 1 K ohm series resistance. [see datasheet]", A2 VPOS (power) "Supply Voltage Pin. Operational range 2.7 V to 5.5 V.", B1 COMM (power) "Device Ground Pin.", B2 RFIN (in) "Signal Input Pin. Internally ac-coupled after internal termination resistance. Nominal 50 ohm input impedance."

## ADL5501AKSZ-R2
designator U?
50 MHz to 6 GHz TruPwr Detector, 6µs Response Time, KS-6, Pb-Free, 250 Reel; Product Description: Reduced Size, Improved Temp Stability; RF Frequency (MHz): 6GHz; Dynamic Range (dB): 30dB; Temp Stability (dB): 250mdB; Voltage Supply (V): 2.7 to 5.5; Supply Current: 1.1mA; Output Response: Linear in Voltage; DatasheetVersion: Rev. B; PackageVersion: 072809-A; PackageReference: KS-6; PackageDescription: 6-Lead Thin Shrink Small Outline Transistor Package [SC70]; Response Time (ns typ): 6µs; Code_JEDEC: MO-203-AB; ComponentLink1Description: Manufacturer URL; ComponentLink1URL: www.analog.com; ComponentLink2Description: Datasheet; ComponentLink2URL: http://www.analog.com/static/imported-files/data_sheets/ADL5501.pdf; ComponentLink3Description: Package Specification; ComponentLink3URL: http://www.analog.com/static/imported-files/packages/PKG_PDF/SC70(KS)/KS_6.pdf
footprint ADI-KS-6_N (SOT23, 6-Leads, Body 2x1.3mm, Pitch 0.65mm, Lead Span 2.1mm, IPC Medium Density)
footprint ADI-KS-6_L (SOT23, 6-Leads, Body 2x1.3mm, Pitch 0.65mm, Lead Span 2.1mm, IPC High Density)
footprint ADI-KS-6_M (SOT23, 6-Leads, Body 2x1.3mm, Pitch 0.65mm, Lead Span 2.1mm, IPC Low Density)
pins: 1 VPOS (power) "Supply Voltage Pin. Operational range 2.7 V to 5.5 V.", 2 FLTR "Square-Domain Filter Pin. Connection for an external capacitor to lower the corner frequency of the square- domain (or modulation) filter. Capacitor is connected between FLTR and VS and forms a low-pass filter with an 8 kO on-chip resistor.[see datasheet", 3 RFIN (in) "Signal Input Pin. Internally ac-coupled after internal termination resistance. Nominal 50 ohm input impedance.", 4 COMM (power) "Device Ground Pin.", 5 ENBL (in) "Enable Pin. Connect pin to VS for normal operation. Connect pin to ground for disable mode for a supply current less than 1 uA.", 6 VRMS (out) "Output Pin. Rail-to-rail voltage output with limited 3 mA current drive capability. The output has an internal 100 O series resistance. High resistive loads are recommended to preserve output swing."

## ADL5501AKSZ-R7
designator U?
50 MHz to 6 GHz TruPwr Detector, 6µs Response Time, KS-6, Pb-Free, 3000 Reel; Product Description: Reduced Size, Improved Temp Stability; RF Frequency (MHz): 6GHz; Dynamic Range (dB): 30dB; Temp Stability (dB): 250mdB; Voltage Supply (V): 2.7 to 5.5; Supply Current: 1.1mA; Output Response: Linear in Voltage; DatasheetVersion: Rev. B; PackageVersion: 072809-A; PackageReference: KS-6; PackageDescription: 6-Lead Thin Shrink Small Outline Transistor Package [SC70]; Response Time (ns typ): 6µs; Code_JEDEC: MO-203-AB; ComponentLink1Description: Manufacturer URL; ComponentLink1URL: www.analog.com; ComponentLink2Description: Datasheet; ComponentLink2URL: http://www.analog.com/static/imported-files/data_sheets/ADL5501.pdf; ComponentLink3Description: Package Specification; ComponentLink3URL: http://www.analog.com/static/imported-files/packages/PKG_PDF/SC70(KS)/KS_6.pdf
footprint ADI-KS-6_N (SOT23, 6-Leads, Body 2x1.3mm, Pitch 0.65mm, Lead Span 2.1mm, IPC Medium Density)
footprint ADI-KS-6_L (SOT23, 6-Leads, Body 2x1.3mm, Pitch 0.65mm, Lead Span 2.1mm, IPC High Density)
footprint ADI-KS-6_M (SOT23, 6-Leads, Body 2x1.3mm, Pitch 0.65mm, Lead Span 2.1mm, IPC Low Density)
pins: 1 VPOS (power) "Supply Voltage Pin. Operational range 2.7 V to 5.5 V.", 2 FLTR "Square-Domain Filter Pin. Connection for an external capacitor to lower the corner frequency of the square- domain (or modulation) filter. Capacitor is connected between FLTR and VS and forms a low-pass filter with an 8 kO on-chip resistor.[see datasheet", 3 RFIN (in) "Signal Input Pin. Internally ac-coupled after internal termination resistance. Nominal 50 ohm input impedance.", 4 COMM (power) "Device Ground Pin.", 5 ENBL (in) "Enable Pin. Connect pin to VS for normal operation. Connect pin to ground for disable mode for a supply current less than 1 uA.", 6 VRMS (out) "Output Pin. Rail-to-rail voltage output with limited 3 mA current drive capability. The output has an internal 100 O series resistance. High resistive loads are recommended to preserve output swing."